# Altium schematic symbol library 辉光钟_底板.SCHLIB: 36 symbols
Pins are listed as number, name and electrical type; pins without a type are passive.

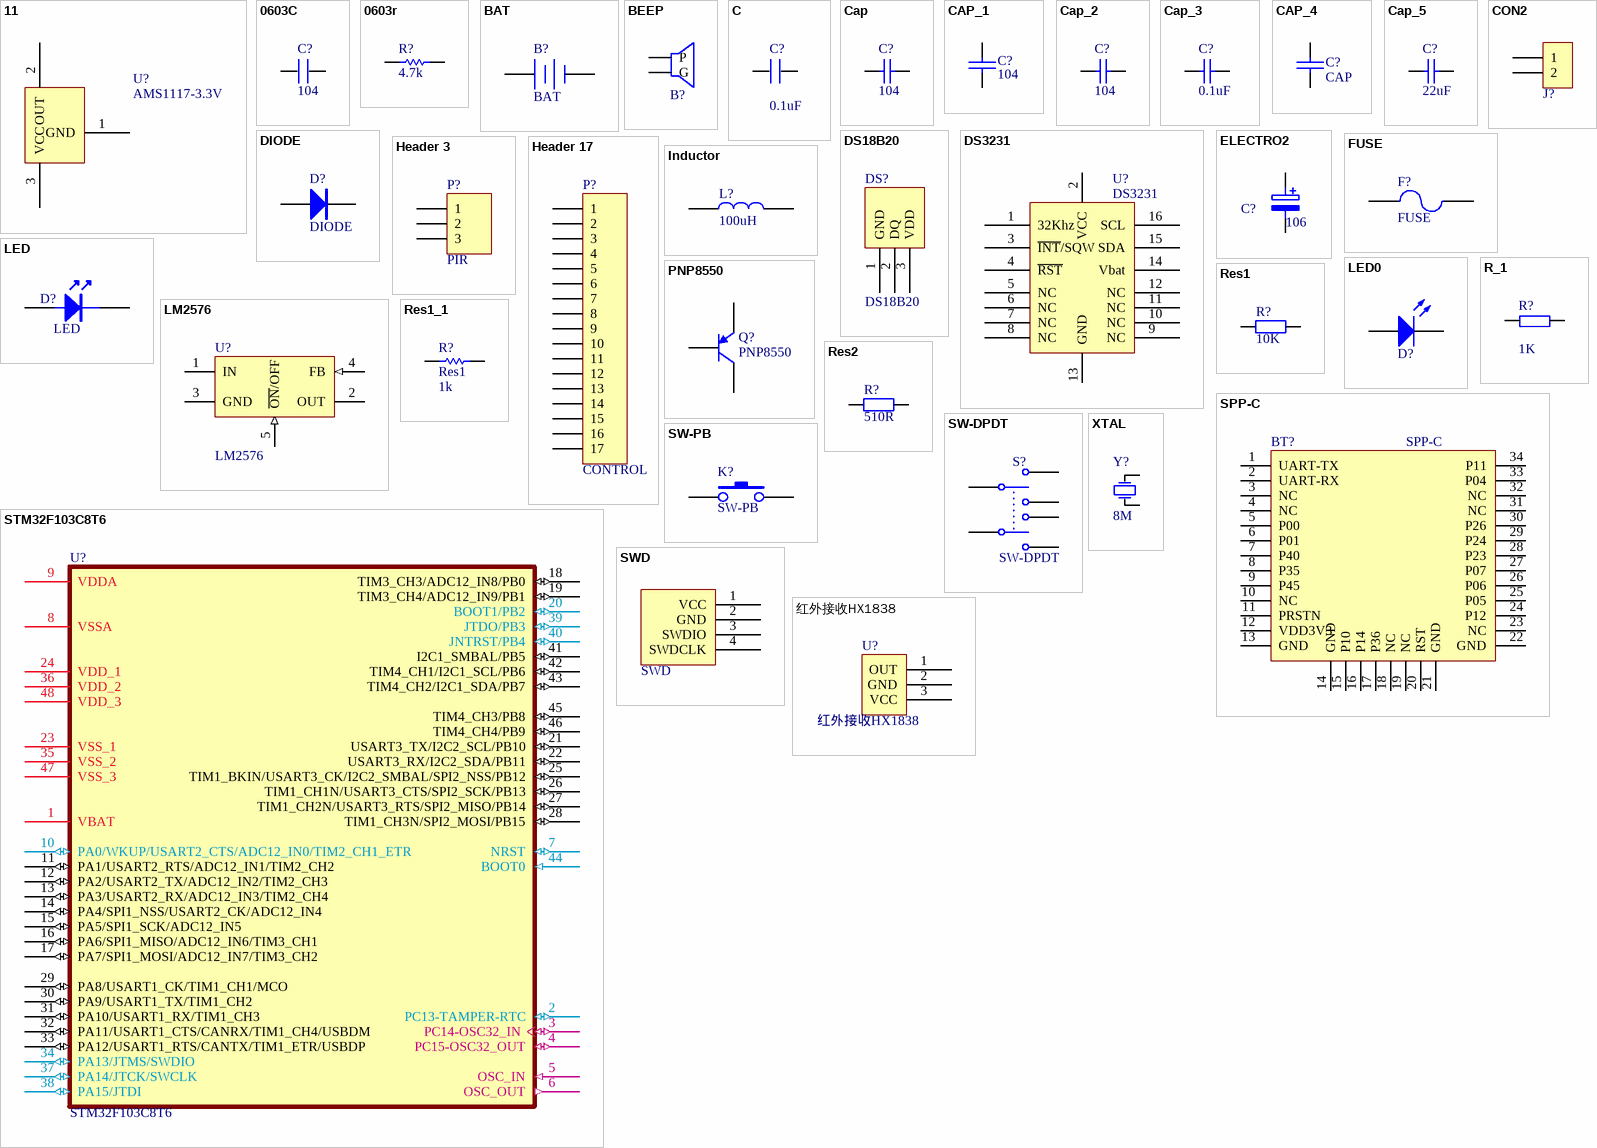
[diagram p0: symbols 11 to 红外接收HX1838]

## 11
designator U?, comment AMS1117-3.3V
footprint AMS1117_SOT223
pins: 1 GND, 2 OUT, 3 VCC

## 0603C
designator C?, comment 104
footprint 0603C
pins: 1, 2

## 0603r
designator R?, comment 4.7k
footprint 0603R
pins: 1, 2

## BAT
designator B?
footprint CR1220_B
pins: 1 +, 2 -

## BEEP
designator B?  (value not drawn)
footprint BELL-SMALL
pins: 1 P, 2 G

## C
designator C?  value 0.1uF
footprint 0603C
pins: 1, 2

## Cap
designator C?  value 104  (hidden comment: Cap)
无极性电容; Published: 8-Jun-2000; LatestRevisionDate: 17-Jul-2002; LatestRevisionNote: Re-released for DXP Platform.; PackageReference: RAD-0.3; Publisher: Altium Limited
footprint 0603C
pins: 1, 2

## CAP_1
designator C?, comment 104
Capacitor
footprint 0603C
pins: 1, 2
2 alternate drawings of the same symbol

## Cap_2
designator C?, comment 104
Capacitor; Published: 8-Jun-2000; LatestRevisionDate: 17-Jul-2002; LatestRevisionNote: Re-released for DXP Platform.; Publisher: Altium Limited; Value: 104
simulation model CAP (Capacitor)
signal-integrity model Cap
footprint 0603C
pins: 1, 2

## Cap_3
designator C?, comment value 0.1uF  (hidden comment: Cap)
Capacitor; Published: 8-Jun-2000; LatestRevisionDate: 17-Jul-2002; LatestRevisionNote: Re-released for DXP Platform.; PackageReference: RAD-0.3; Publisher: Altium Limited
simulation model CAP (Capacitor)
signal-integrity model Cap
footprint 0603C
pins: 1, 2

## CAP_4
designator C?, comment CAP
footprint CS 5.0*10*13 - C (脚距5mm , 直径10mm , 高13mm)
pins: 1, 2

## Cap_5
designator C?, comment value 22uF  (hidden comment: Cap)
Capacitor; Published: 8-Jun-2000; LatestRevisionDate: 17-Jul-2002; LatestRevisionNote: Re-released for DXP Platform.; PackageReference: RAD-0.3; Publisher: Altium Limited
simulation model CAP (Capacitor)
signal-integrity model Cap
footprint CD4
pins: 1, 2

## CON2
designator J?  (value not drawn)
Connector
footprint DC10B
pins: 1, 2

## DIODE
designator D?
footprint DO-27 (5.2*14.9mm(直径，脚距）)
pins: A, K

## DS18B20
designator DS?
温度传感器
footprint HDR1X3 (Connector; Header; 3 Position)
pins: 1 GND, 2 DQ, 3 VDD

## DS3231
designator U?
footprint SOIC-16 300mil
pins: 1 32Khz, 2 VCC, 3 ~{INT}/SQW, 4 ~{RST}, 5 NC, 6 NC, 7 NC, 8 NC, 9 NC, 10 NC, 11 NC, 12 NC, 13 GND, 14 Vbat, 15 SDA, 16 SCL

## ELECTRO2
designator C?, comment 106
footprint 0603C
pins: 1, 2
2 alternate drawings of the same symbol

## FUSE
designator F?
footprint FUSE
pins: 1, 2

## Header 3
designator P?, comment PIR
Header, 3-Pin; LatestRevisionDate: 17-Jul-2002; LatestRevisionNote: Re-released for DXP Platform.; Publisher: Altium Limited
footprint HDR1X3 (Connector; Header; 3 Position)
signal-integrity model Connector
pins: 1, 2, 3

## Header 17
designator P?, comment CONTROL
Header, 17-Pin; LatestRevisionDate: 17-Jul-2002; LatestRevisionNote: Re-released for DXP Platform.; Publisher: Altium Limited
signal-integrity model Connector
footprint QS30_shape
pins: 1, 2, 3, 4, 5, 6, 7, 8, 9, 10, 11, 12, 13, 14, 15, 16, 17

## Inductor
designator L?, comment 100uH
footprint 电感
pins: 1, 2

## LED
designator D?
footprint 0805_LED
pins: 1, 2

## LED0
designator D?  (value not drawn)
发光二极管; Published: 8-Jun-2000; LatestRevisionDate: 08-Jul-2005; LatestRevisionNote: Mech Layer 1 removed.; PackageReference: LED-0; Publisher: Altium Limited
footprint 0805_LED
pins: 1 A, 2 K

## LM2576
designator U?
Simple Switcher 3A Step Down Voltage Regulator; Note: Tab is connected to GND; Published: 15-Apr-2002; Datasheet: Latest Revision: Jun-1999; Package Reference: TS5B; Publisher: Altium Limited
footprint TO-263-5
pins: 1 IN (power), 2 OUT (power), 3 GND (power), 4 FB (in), 5 ~{ON}/OFF (in)

## PNP8550
designator Q?
footprint NPN8050 SOT23R
pins: 1 B, 2 E, 3 C

## R_1
designator R?  value 1K
footprint 0603R
pins: 1, 2

## Res1
designator R?  value 10K  (hidden comment: Res1)
贴片电阻; Published: 8-Jun-2000; LatestRevisionDate: 17-Jul-2002; LatestRevisionNote: Re-released for DXP Platform.; PackageReference: AXIAL-0.4; Publisher: Altium Limited
footprint 0603R
pins: 1, 2

## Res1_1
designator R?, comment Res1  value 1k
Resistor; Published: 8-Jun-2000; LatestRevisionDate: 17-Jul-2002; LatestRevisionNote: Re-released for DXP Platform.; PackageReference: AXIAL-0.3; Publisher: Altium Limited; PackageDescription: Axial Device, Thru-Hole; 2 Leads; 0.3 in Pin Spacing
simulation model RESISTOR (Resistor)
signal-integrity model Res
footprint 0603R
pins: 1, 2

## Res2
designator R?, comment 510R
Resistor; Published: 8-Jun-2000; LatestRevisionDate: 17-Jul-2002; LatestRevisionNote: Re-released for DXP Platform.; Publisher: Altium Limited
simulation model RESISTOR (Resistor)
signal-integrity model Res
footprint 0603R
pins: 1, 2

## SPP-C
designator BT?
sppc
footprint CC2540/2541
pins: 1 UART-TX, 2 UART-RX, 3 NC, 4 NC, 5 P00, 6 P01, 7 P40, 8 P35, 9 P45, 10 NC, 11 PRSTN, 12 VDD3V3, 13 GND, 14 GND, 15 P10, 16 P14, 17 P36, 18 NC, 19 NC, 20 RST, 21 GND, 22 GND, 23 NC, 24 P12, 25 P05, 26 P06, 27 P07, 28 P23, 29 P24, 30 P26, 31 NC, 32 NC, 33 P04, 34 P11

## STM32F103C8T6
designator U?
STM32 ARM-based 32-bit MCU with 64 Kbytes Flash, 48-pin LQFP, Industrial Temperature; Published: *; DatasheetVersion: *; PackageVersion: *; PackageReference: *; Publisher: *; PackageDescription: *; ComponentLink1Description: *; ComponentLink1URL: *; ComponentLink2Description: *; ComponentLink2URL: *
footprint STM-LQFP48_M (QFP, 48-Leads, Body 7x7mm, Pitch 0.5mm, IPC Low Density)
pins: 1 VBAT (power), 2 PC13-TAMPER-RTC (io), 3 PC14-OSC32_IN (io), 4 PC15-OSC32_OUT (io), 5 OSC_IN (in), 6 OSC_OUT (out), 7 NRST (io), 8 VSSA (power), 9 VDDA (power), 10 PA0/WKUP/USART2_CTS/ADC12_IN0/TIM2_CH1_ETR (io), 11 PA1/USART2_RTS/ADC12_IN1/TIM2_CH2 (io), 12 PA2/USART2_TX/ADC12_IN2/TIM2_CH3 (io), 13 PA3/USART2_RX/ADC12_IN3/TIM2_CH4 (io), 14 PA4/SPI1_NSS/USART2_CK/ADC12_IN4 (io), 15 PA5/SPI1_SCK/ADC12_IN5 (io), 16 PA6/SPI1_MISO/ADC12_IN6/TIM3_CH1 (io), 17 PA7/SPI1_MOSI/ADC12_IN7/TIM3_CH2 (io), 18 TIM3_CH3/ADC12_IN8/PB0 (io), 19 TIM3_CH4/ADC12_IN9/PB1 (io), 20 BOOT1/PB2 (io), 21 USART3_TX/I2C2_SCL/PB10 (io), 22 USART3_RX/I2C2_SDA/PB11 (io), 23 VSS_1 (power), 24 VDD_1 (power), 25 TIM1_BKIN/USART3_CK/I2C2_SMBAL/SPI2_NSS/PB12 (io), 26 TIM1_CH1N/USART3_CTS/SPI2_SCK/PB13 (io), 27 TIM1_CH2N/USART3_RTS/SPI2_MISO/PB14 (io), 28 TIM1_CH3N/SPI2_MOSI/PB15 (io), 29 PA8/USART1_CK/TIM1_CH1/MCO (io), 30 PA9/USART1_TX/TIM1_CH2 (io), 31 PA10/USART1_RX/TIM1_CH3 (io), 32 PA11/USART1_CTS/CANRX/TIM1_CH4/USBDM (io), 33 PA12/USART1_RTS/CANTX/TIM1_ETR/USBDP (io), 34 PA13/JTMS/SWDIO (io), 35 VSS_2 (power), 36 VDD_2 (power), 37 PA14/JTCK/SWCLK (io), 38 PA15/JTDI (io), 39 JTDO/PB3 (io), 40 JNTRST/PB4 (io), 41 I2C1_SMBAL/PB5 (io), 42 TIM4_CH1/I2C1_SCL/PB6 (io), 43 TIM4_CH2/I2C1_SDA/PB7 (io), 44 BOOT0 (in), 45 TIM4_CH3/PB8 (io), 46 TIM4_CH4/PB9 (io), 47 VSS_3 (power), 48 VDD_3 (power)
2 alternate drawings of the same symbol

## SW-DPDT
designator S?
Double-Pole, Double-Throw Switch; Published: 24-Mar-1999; LatestRevisionDate: 17-Jul-2002; LatestRevisionNote: Re-released for DXP Platform.; PackageReference: DPDT-6; Publisher: Altium Limited; PackageDescription: Switch; 6 Leads
footprint 单刀双掷开关
pins: 1 2, 2 1, 3, 4 5, 4 6, 5 4

## SW-PB
designator K?
footprint KEY_M
pins: 1, 2

## SWD
designator SWD?
footprint XH2.54-4
pins: 1 VCC, 2 GND, 3 SWDIO, 4 SWDCLK

## XTAL
designator Y?  value 8M  (hidden comment: XTAL)
晶振; Published: 8-Jun-2000; LatestRevisionDate: 17-Jul-2002; LatestRevisionNote: Re-released for DXP Platform.; PackageReference: R38; Publisher: Altium Limited
footprint XTAL-12M
pins: 1 OSC1, 2 OSC2

## 红外接收HX1838
designator U?
footprint 红外HX1838
pins: 1 OUT, 2 GND, 3 VCC